# Altium integrated library ul_AMS1117.IntLib: 1 symbol
Pins are listed as number, name and electrical type; pins without a type are passive.

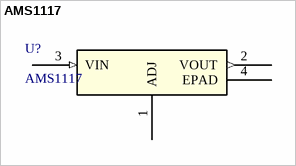
[diagram p0: symbol AMS1117]

## AMS1117
designator U?
No Description Available; Vendor: Advanced Monolithic Systems; Built_By: EMA_Matt; SourceLibrary: Advanced_Monolithic_Systems_10-16-2019; Copyright: Copyright (C) 2018 Accelerated Designs. All rights reserved; Manufacturer_Part_Number: AMS1117; RefDes: RefDes; Type: DEV
footprint SOT_AMS_ADS
pins: 1 ADJ, 2 VOUT (out), 3 VIN (in), 4 EPAD (power)